# Altium footprint library AZ1117EH-3.3TRG1.PcbLib: 2 footprints
Each footprint in its own frame and in the unit in brackets; x right, y up, seen from the top. Pads: shape width x height; smd on the part's side, far side on the other; paste and mask are expansions set on the pad; w line width, h text height; cw(c..) or ccw(c..) is an arc to the next point about the centre after c.
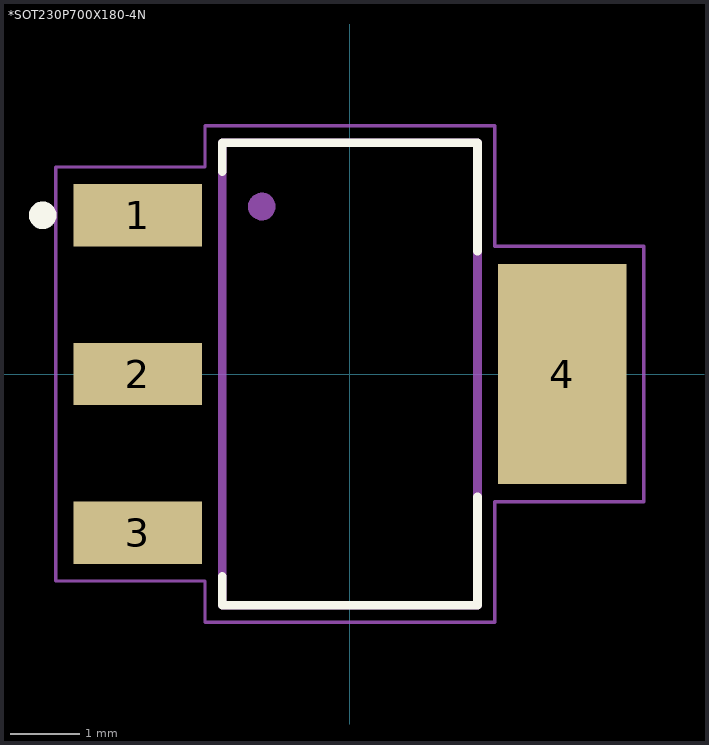
[diagram p0: the footprints below, top view; thin cyan lines are the x and y axes]

## *SOT230P700X180-4N [mm]
pads (4):
  rect 1.86x0.9 smd: 1(-3.075,2.3) 2(-3.075,0) 3(-3.075,-2.3)
  rect 1.86x3.19 smd: 4(3.075,0)
Top Overlay:
  circle w0.2: c-4.452,2.3 r0.1
  lines w0.127: -1.85,-2.933 -1.85,-3.35 1.85,-3.35 1.85,-1.779 ; -1.85,2.933 -1.85,3.35 1.85,3.35 1.85,1.779
Mechanical 4:
  circle w0.2: c-1.277,2.427 r0.1
  circle w0.2: c-1.277,2.427 r0.1
  lines w0.127: -1.85,-3.35 1.85,-3.35 ; -1.85,-3.35 -1.85,3.35 ; -1.85,-3.35 1.85,-3.35 ; -1.85,-3.35 -1.85,3.35 ; -1.85,3.35 1.85,3.35 ; -1.85,3.35 1.85,3.35 ; 1.85,-3.35 1.85,3.35 ; 1.85,-3.35 1.85,3.35
Mechanical 16:
  lines w0.05: -4.26,-3 -2.1,-3 -2.1,-3.6 2.1,-3.6 2.1,-1.85 4.26,-1.85 4.26,1.85 2.1,1.85 2.1,3.6 -2.1,3.6 -2.1,3 -4.26,3 -4.26,-3

## PCBComponent_1 [mm]